# EAGLE library part DF11-12-2DSA_S (library con-hirose-df11)
HEADER
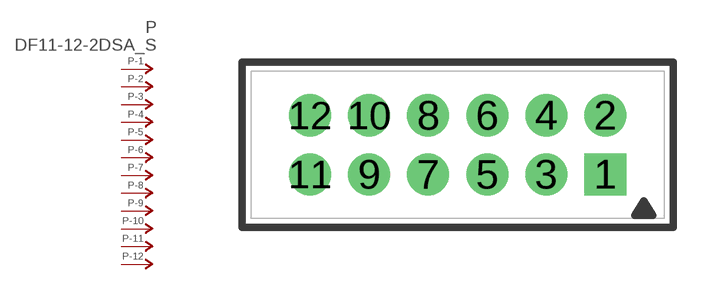
[diagram p17: symbol with the pads of DF11-12DP-2DSA; footprint DF11-12DP-2DSA]

Designator prefix P; gates -1=P-NV -2=P-N -3=P-N -4=P-N -5=P-N -6=P-N -7=P-N -8=P-N -9=P-N -10=P-N -11=P-N -12=P-N

## DF11-12-2DSA_S  [DF11-12DP-2DSA]
1  -1:P  pas
2  -2:P  pas
3  -3:P  pas
4  -4:P  pas
5  -5:P  pas
6  -6:P  pas
7  -7:P  pas
8  -8:P  pas
9  -9:P  pas
10  -10:P  pas
11  -11:P  pas
12  -12:P  pas

## Footprint DF11-12DP-2DSA (pad centres in mm)
HEADER
drill 0.914 square: 1 5,-1
drill 0.914: 2 5,1; 3 3,-1; 4 3,1; 5 1,-1; 6 1,1; 7 -1,-1; 8 -1,1; 9 -3,-1; 10 -3,1; 11 -5,-1; 12 -5,1